# Altium footprint library LacewingPXE_v3p1.PcbLib: 35 footprints (part 3 of 3)
Each footprint in its own frame and in the unit in brackets; x right, y up, seen from the top. Pads: shape width x height; smd on the part's side, far side on the other; paste and mask are expansions set on the pad; w line width, h text height; cw(c..) or ccw(c..) is an arc to the next point about the centre after c.
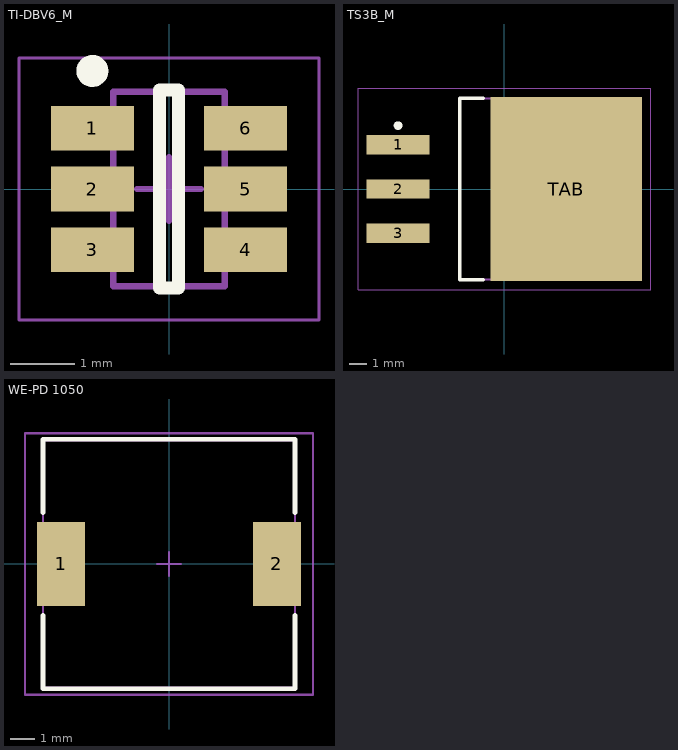
[diagram p2: the footprints below, top view; thin cyan lines are the x and y axes]

## TI-DBV6_M [mm] "SOT-23, 6-Leads, Body 2.90x1.60mm, Pitch 0.95mm, IPC Low Density"
height 1.45
pads (6):
  rect 1.3x0.7 smd: 1(-1.2,0.95) 2(-1.2,0) 3(-1.2,-0.95) 4(1.2,-0.95) 5(1.2,0) 6(1.2,0.95)
Top Overlay:
  circle w0.25: c-1.2,1.85 r0.125
  lines w0.2: -0.15,-1.55 0.15,-1.55 0.15,1.55 -0.15,1.55 -0.15,-1.55
Mechanical 13:
  lines w0.1: -0.875,-1.525 -0.875,1.525 0.875,1.525 0.875,-1.525 -0.875,-1.525
Mechanical 15:
  lines w0.05: -2.35,-2.05 -2.35,2.05 2.35,2.05 2.35,-2.05 -2.35,-2.05
  lines w0.1: -0.5,0 0.5,0 ; 0,-0.5 0,0.5
3D body: height 1.45, standoff 0, extent -0.875,-1.525 0.875,1.525

## TS3B_M [mm] "D2-PAK, 4-Leads, Body 8.6x10.2mm, Pitch 2.54mm, Lead Span 14.2mm, IPC Low Density"
height 4.64
pads (4):
  rect 3.6x1.1 smd: 1(-6.1,2.54) 2(-6.1,0) 3(-6.1,-2.54)
  rect 8.7x10.55 smd: TAB(3.55,0)
Top Overlay:
  circle w0.25: c-6.1,3.64 r0.125
  lines w0.2: -1.2,-5.2 -2.55,-5.2 -2.55,5.2 -1.2,5.2
Mechanical 13:
  lines w0.1: -2.55,-5.2 6.34,-5.2 6.34,5.2 -2.55,5.2 -2.55,-5.2
Mechanical 15:
  lines w0.05: -8.4,-5.775 8.4,-5.775 8.4,5.775 -8.4,5.775 -8.4,-5.775
  lines w0.1: -0.5,0 0.5,0 ; 0,-0.5 0,0.5
3D body: height 4.64, standoff 0, extent -2.55,-5.2 6.34,5.2

## WE-PD 1050 [mm] "SMD Inductor, 2-Leads, Body 10,0x10,0mm"
height 5
pads (2):
  rect 2x3.5 smd: 1(-4.5,0) 2(4.5,0)
Top Overlay:
  lines w0.2: -5.25,-2.15 -5.25,-5.2 5.25,-5.2 5.25,-2.15 ; -5.25,2.15 -5.25,5.2 5.25,5.2 5.25,2.15
Mechanical 13:
  lines w0.1: -5.25,-5.15 -5.25,5.15 5.25,5.15 5.25,-5.15 -5.25,-5.15
Mechanical 15:
  lines w0.1: -0.5,0 0.5,0 ; 0,-0.5 0,0.5 ; -6,-5.45 -6,5.45 6,5.45 6,-5.45 -6,-5.45
3D body "7447714xx.stp": height 4.75, standoff -0.05, extent -5,-5 5,5